# Altium footprint library conn_lib.PcbLib: 12 footprints
Each footprint in its own frame and in the unit in brackets; x right, y up, seen from the top. Pads: shape width x height; smd on the part's side, far side on the other; paste and mask are expansions set on the pad; w line width, h text height; cw(c..) or ccw(c..) is an arc to the next point about the centre after c.
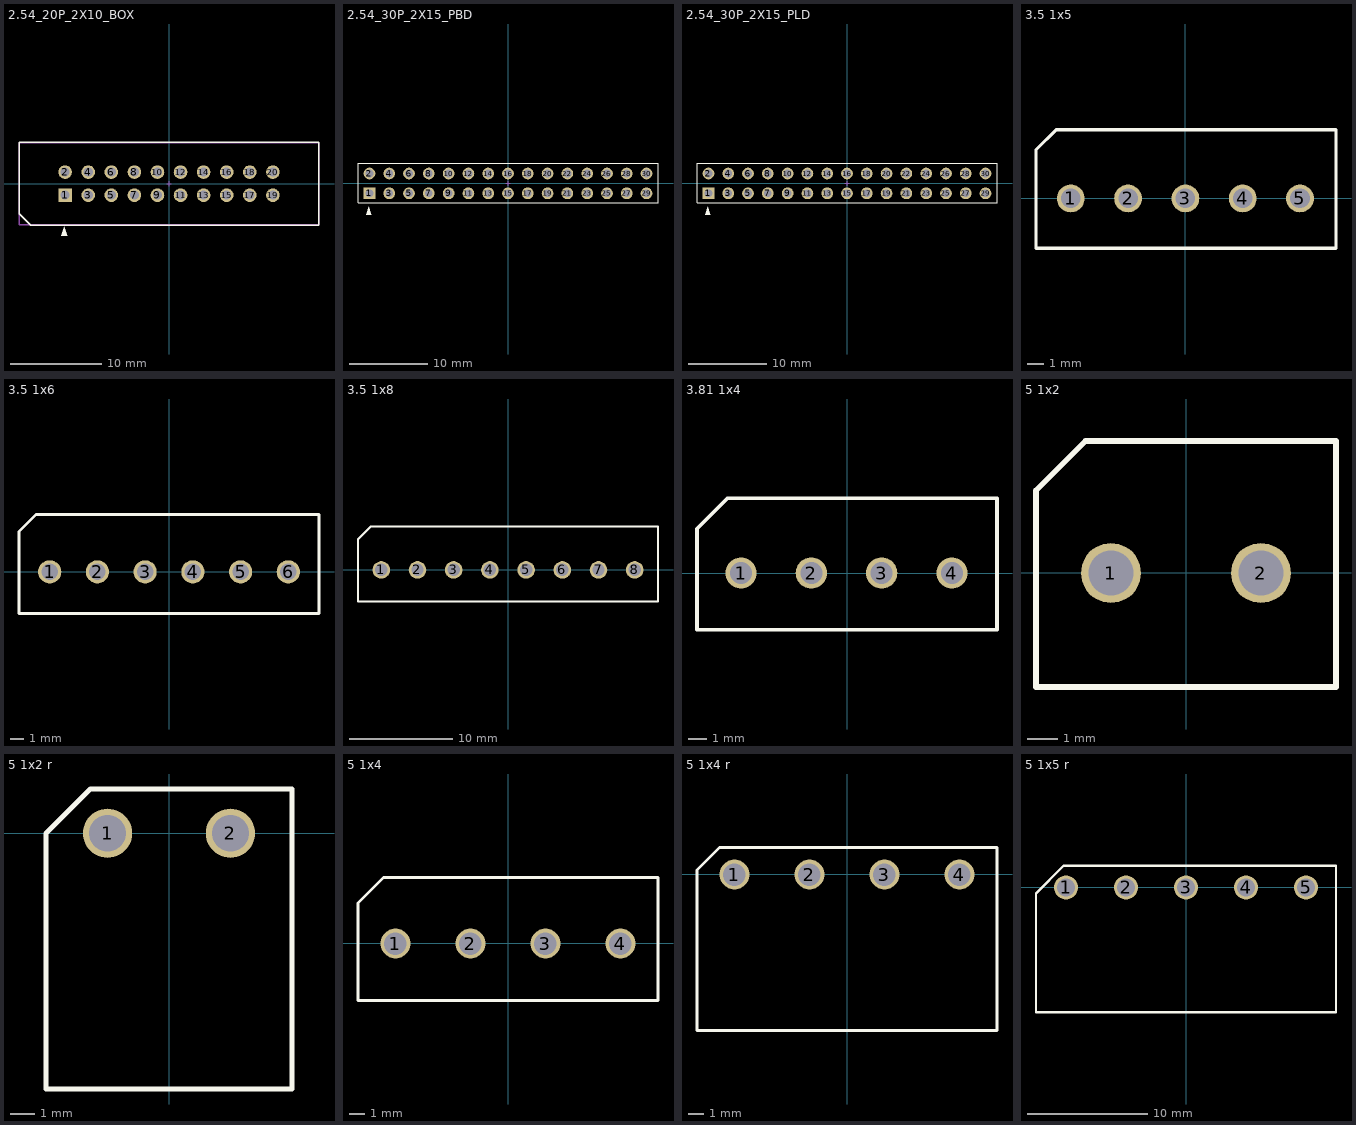
[diagram p0: the footprints below, top view; thin cyan lines are the x and y axes]

## 2.54_20P_2X10_BOX [mm] "20 pin, 2x10, 2.54 mm pitch Male Box Header"
height 9.1
pads (20):
  rect 1.5x1.5 hole 1: 1(-11.43,-1.27)
  round 1.5 hole 1: 2(-11.43,1.27) 3(-8.89,-1.27) 4(-8.89,1.27) 5(-6.35,-1.27) 6(-6.35,1.27) 7(-3.81,-1.27) 8(-3.81,1.27) 9(-1.27,-1.27) 10(-1.27,1.27) 11(1.27,-1.27) 12(1.27,1.27) 13(3.81,-1.27) 14(3.81,1.27) 15(6.35,-1.27) 16(6.35,1.27) 17(8.89,-1.27) 18(8.89,1.27) 19(11.43,-1.27) 20(11.43,1.27)
Top Overlay:
  region: -11.525,-4.75 -11.845,-5.75 -11.205,-5.75
  lines w0.15: -16.51,-3.302 -16.51,4.572 16.51,4.572 16.51,-4.572 -15.24,-4.572 -16.51,-3.302
Top Assembly:
  lines w0.05: -0.275,0 0.275,0 ; 0,-0.275 0,0.275
  lines w0.15: -16.51,-4.5 -16.51,4.5 16.51,4.5 16.51,-4.5 -16.51,-4.5
Top Courtyard:
  lines w0.05: -16.5,-4.475 -16.5,4.475 16.5,4.475 16.5,-4.475 -16.5,-4.475
3D body "61202021621 (rev1).stp": height 9.13, standoff -2.98, extent -16.53,-4.425 16.53,4.75

## 2.54_30P_2X15_PBD [mm] "30 pin, 2x15, 2.54 mm pitch Male Box Header"
height 9.1
pads (30):
  rect 1.5x1.5 hole 1: 1(-17.78,-1.27)
  round 1.5 hole 1: 2(-17.78,1.27) 3(-15.24,-1.27) 4(-15.24,1.27) 5(-12.7,-1.27) 6(-12.7,1.27) 7(-10.16,-1.27) 8(-10.16,1.27) 9(-7.62,-1.27) 10(-7.62,1.27) 11(-5.08,-1.27) 12(-5.08,1.27) 13(-2.54,-1.27) 14(-2.54,1.27) 15(0,-1.27) 16(0,1.27) 17(2.54,-1.27) 18(2.54,1.27) 19(5.08,-1.27) 20(5.08,1.27) 21(7.62,-1.27) 22(7.62,1.27) 23(10.16,-1.27) 24(10.16,1.27) 25(12.7,-1.27) 26(12.7,1.27) 27(15.24,-1.27) 28(15.24,1.27) 29(17.78,-1.27) 30(17.78,1.27)
Top Overlay:
  region: -17.84,-3 -18.16,-4 -17.52,-4
  lines w0.15: 19.25,2.5 19.25,-2.5 -19.25,-2.5 -19.25,2.572 19.25,2.572
Top Assembly:
  lines w0.05: -0.275,0 0.275,0 ; 0,-0.275 0,0.275
3D body "User Library-PBD_(DS1023-2)_2line_connectors_h=5_0_8_5mm_step_2_54mm_fixed.step": height 8.5, standoff -3, extent -19.3,-2.52 19.3,2.48

## 2.54_30P_2X15_PLD [mm] "30 pin, 2x15, 2.54 mm pitch Male Box Header"
height 9.1
pads (30):
  rect 1.5x1.5 hole 1: 1(-17.78,-1.27)
  round 1.5 hole 1: 2(-17.78,1.27) 3(-15.24,-1.27) 4(-15.24,1.27) 5(-12.7,-1.27) 6(-12.7,1.27) 7(-10.16,-1.27) 8(-10.16,1.27) 9(-7.62,-1.27) 10(-7.62,1.27) 11(-5.08,-1.27) 12(-5.08,1.27) 13(-2.54,-1.27) 14(-2.54,1.27) 15(0,-1.27) 16(0,1.27) 17(2.54,-1.27) 18(2.54,1.27) 19(5.08,-1.27) 20(5.08,1.27) 21(7.62,-1.27) 22(7.62,1.27) 23(10.16,-1.27) 24(10.16,1.27) 25(12.7,-1.27) 26(12.7,1.27) 27(15.24,-1.27) 28(15.24,1.27) 29(17.78,-1.27) 30(17.78,1.27)
Top Overlay:
  region: -17.84,-3 -18.16,-4 -17.52,-4
  lines w0.15: 19.25,2.5 19.25,-2.5 -19.25,-2.5 -19.25,2.572 19.25,2.572
Top Assembly:
  lines w0.05: -0.275,0 0.275,0 ; 0,-0.275 0,0.275
3D body "PLD-30.step": height 8.6, standoff -3, extent -19.05,-2.54 19.05,2.54

## 3.5 1x5 [mm]
pads (5):
  round 1.7 hole 1.2: 1(-7,0) 2(-3.5,0) 3(0,0) 4(3.5,0) 5(7,0)
Top Overlay:
  lines w0.2: -9.125,-3.05 9.2,-3.05 9.2,4.2 -7.9,4.2 -9.125,2.975 -9.125,-3.025
3D body "15EDGVC-3.5-05P-14-00AH.STEP": height 9.2, standoff -3.4, extent -9.05,-3 9.25,4.2
3D body "15EDGKA-3.5-05P-14-00AH.STEP": height 22.1, standoff 3, extent -9.1,-5.5 9.2,5

## 3.5 1x6 [mm]
pads (6):
  round 1.7 hole 1.2: 1(-8.75,0) 2(-5.25,0) 3(-1.75,0) 4(1.75,0) 5(5.25,0) 6(8.75,0)
Top Overlay:
  lines w0.2: -11,-3.05 -11,2.95 -9.75,4.2 11,4.2 11,-3.05 -11,-3.05
3D body "15EDGKA-3.5-06P-14-00AH.STEP": height 22.1, standoff 3, extent -10.9,-5.45 10.9,5.05
3D body "15EDGVC-3.5-06P-14-00AH.STEP": height 9.2, standoff -3.4, extent -10.9,-3 10.9,4.2

## 3.5 1x8 [mm]
pads (8):
  round 1.7 hole 1.2: 1(-12.25,0) 2(-8.75,0) 3(-5.25,0) 4(-1.75,0) 5(1.75,0) 6(5.25,0) 7(8.75,0) 8(12.25,0)
Top Overlay:
  lines w0.2: -14.5,-3.05 -14.5,2.95 -13.25,4.2 14.5,4.2 14.5,-3.05 -14.5,-3.05
3D body "15EDGVC-3.5-08P-14-00AH.STEP": height 9.2, standoff -3.4, extent -14.4,-2.95 14.4,4.25
3D body "15EDGKA-3.5-08P-14-00AH.STEP": height 22.1, standoff 3, extent -14.3,-5.4 14.5,5.1

## 3.81 1x4 [mm]
pads (4):
  round 1.7 hole 1.2: 1(-5.742,0.019) 2(-1.932,0.019) 3(1.878,0.019) 4(5.688,0.019)
Top Overlay:
  lines w0.2: -8.128,-3.05 8.128,-3.05 8.128,4.064 -6.477,4.064 -8.128,2.413 -8.128,-3.05
3D body "15EDGK-3.81-4 +15EDGK-3.81-4 (Degson).STEP": height 18.63, standoff -3.47, extent -8.03,-6.585 8.03,4.445

## 5 1x2 [mm]
pads (2):
  round 2 hole 1.5: 1(-2.5,0) 2(2.5,0)
Top Overlay:
  lines w0.2: -5,-3.8 -5,2.75 -3.35,4.4 5,4.4 5,-3.8 -5,-3.8
3D body "2EDGV-5.0-02P-14-00AH.STEP": height 12.1, standoff -4, extent -5,-3.75 5,4.45
3D body "2EDGK-5.0-02P-14-00AH.STEP": height 21.4, standoff 4, extent -5,-3.8 5,11.3

## 5 1x2 r [mm]
pads (2):
  round 2 hole 1.5: 1(-2.5,0) 2(2.5,0)
Top Overlay:
  lines w0.2: -5,-10.4 -5,0 -3.2,1.8 5,1.8 5,-10.4 -5,-10.4
3D body "2EDGK-5.0-02P-14-00AH.STEP": height 15.1, standoff 0, extent -5,-18.95 5,-1.55
3D body "2EDGR-5.0-02P-14-00AH.STEP": height 8.2, standoff -4, extent -5,-10.3 5,1.8

## 5 1x4 [mm]
pads (4):
  round 2 hole 1.5: 1(-7.5,0) 2(-2.5,0) 3(2.5,0) 4(7.5,0)
Top Overlay:
  lines w0.2: -10,-3.8 10,-3.8 10,4.4 -8.3,4.4 -10,2.7 -10,-3.8
3D body "2EDGK-5.0-04P-14-00AH.STEP": height 21.4, standoff 4, extent -10,-3.7 10,11.4
3D body "2EDGV-5.0-04P-14-00AH.STEP": height 12.1, standoff -4, extent -10,-3.7 10,4.5

## 5 1x4 r [mm]
pads (4):
  round 2 hole 1.5: 1(-7.5,0) 2(-2.5,0) 3(2.5,0) 4(7.5,0)
Top Overlay:
  lines w0.2: -10,-10.4 10,-10.4 10,1.8 -8.5,1.8 -10,0.3 -10,-10.4
3D body "2EDGR-5.0-04P-14-00AH.STEP": height 8.2, standoff -4, extent -10,-10.4 10,1.7
3D body "2EDGK-5.0-04P-14-00AH.STEP": height 15.1, standoff 0, extent -9.9,-19.2 10.1,-1.8

## 5 1x5 r [mm]
pads (5):
  round 2 hole 1.5: 1(-10,0) 2(-5,0) 3(0,0) 4(5,0) 5(10,0)
Top Overlay:
  lines w0.2: -12.5,-10.4 12.5,-10.4 12.5,1.8 -10.2,1.8 -12.5,-0.5 -12.5,-10.4
3D body "2EDGK-5.0-05P-14-00AH.STEP": height 15.1, standoff 0, extent -12.5,-19.1 12.5,-1.7
3D body "2EDGR-5.0-05P-14-00AH.STEP": height 8.2, standoff -4, extent -12.5,-10.4 12.5,1.7